# EAGLE library part APDS-9801 (library BEEP)
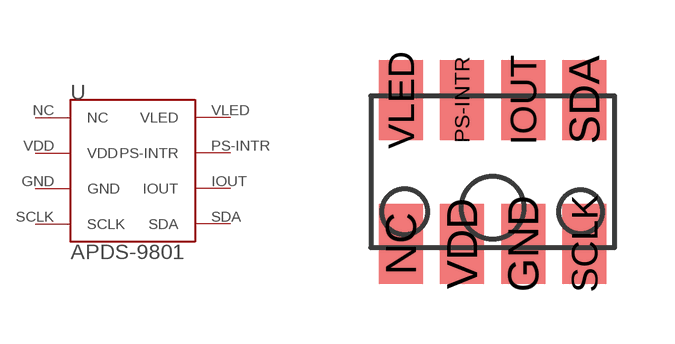
[diagram p2: symbol with the pads of APDS-9801; footprint APDS-9801]

Designator prefix -

## APDS-9801  [APDS-9801]
GND  GND  pwr
IOUT  IOUT  in
NC  NC  nc
PS-INTR  PS-INTR  out
SCLK  SCLK
SDA  SDA
VDD  VDD  pwr
VLED  VLED  pwr

## Footprint APDS-9801 (pad centres in mm)
smd 1.1 x 2: GND 0.765,-1.8; IOUT 0.765,1.8; NC -2.295,-1.8; PS-INTR -0.765,1.8; SCLK 2.295,-1.8; SDA 2.295,1.8; VDD -0.765,-1.8; VLED -2.295,1.8